# EAGLE library part AS-ITM-00304 (library tinycircuits)
CONN RCPT 8POS .100 SGL STR SMD
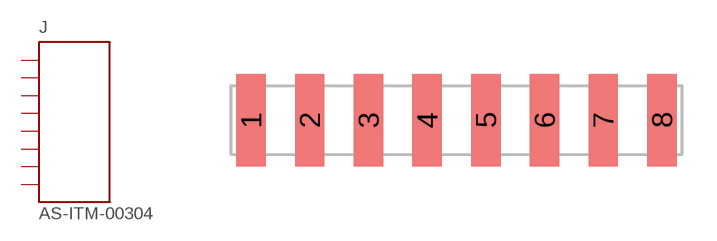
[diagram p120: symbol with the pads of 1X8_.1"_HEADER_SMT; footprint 1X8_.1"_HEADER_SMT]

Designator prefix J

## AS-ITM-00304 (PARTNO: AS-ITM-00304; VALUE: 91601-308LF)  [1X8_.1"_HEADER_SMT]
1  P$1
2  P$2
3  P$3
4  P$4
5  P$5
6  P$6
7  P$7
8  P$8

## Footprint 1X8_.1"_HEADER_SMT (pad centres in mm)
smd 1.27 x 4: 1 -8.89,0; 2 -6.35,0; 3 -3.81,0; 4 -1.27,0; 5 1.27,0; 6 3.81,0; 7 6.35,0; 8 8.89,0